# Altium footprint library NJM2845DL133TE1.PcbLib: 1 footprints
Each footprint in its own frame and in the unit in brackets; x right, y up, seen from the top. Pads: shape width x height; smd on the part's side, far side on the other; paste and mask are expansions set on the pad; w line width, h text height; cw(c..) or ccw(c..) is an arc to the next point about the centre after c.
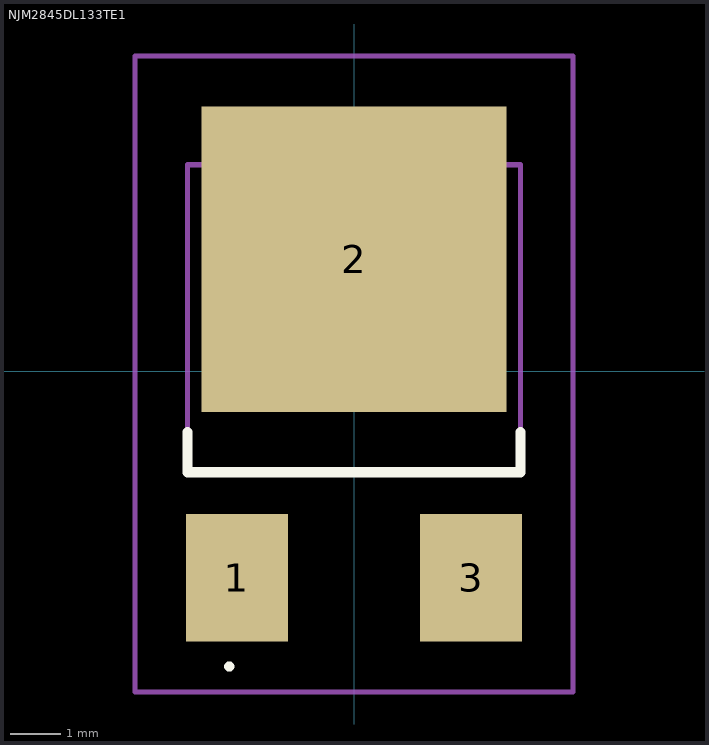
[diagram p0: the footprint, top view; thin cyan lines are the x and y axes]

## NJM2845DL133TE1 [mm]
pads (3):
  rect 2x2.5 smd: 1(-2.3,-4.055) 3(2.3,-4.055)
  rect 6x6 smd: 2(0,2.195)
Top Overlay:
  lines w0.1: -2.5,-5.8 cw(c-2.45,-5.8) -2.4,-5.8 ; -2.5,-5.8 -2.5,-5.8 ; -2.5,-5.8 ccw(c-2.45,-5.8) -2.4,-5.8 ; -2.4,-5.8 -2.4,-5.8
  lines w0.2: -3.27,-1.2 -3.27,-1.985 3.27,-1.985 3.27,-1.2
Mechanical 15:
  lines w0.1: -3.27,-1.985 3.27,-1.985 3.27,4.055 -3.27,4.055 -3.27,-1.985
Mechanical 20:
  lines w0.1: -4.3,-6.305 4.3,-6.305 4.3,6.195 -4.3,6.195 -4.3,-6.305